# Altium schematic symbol library WR-WTB.SchLib: 242 symbols (part 2 of 5)
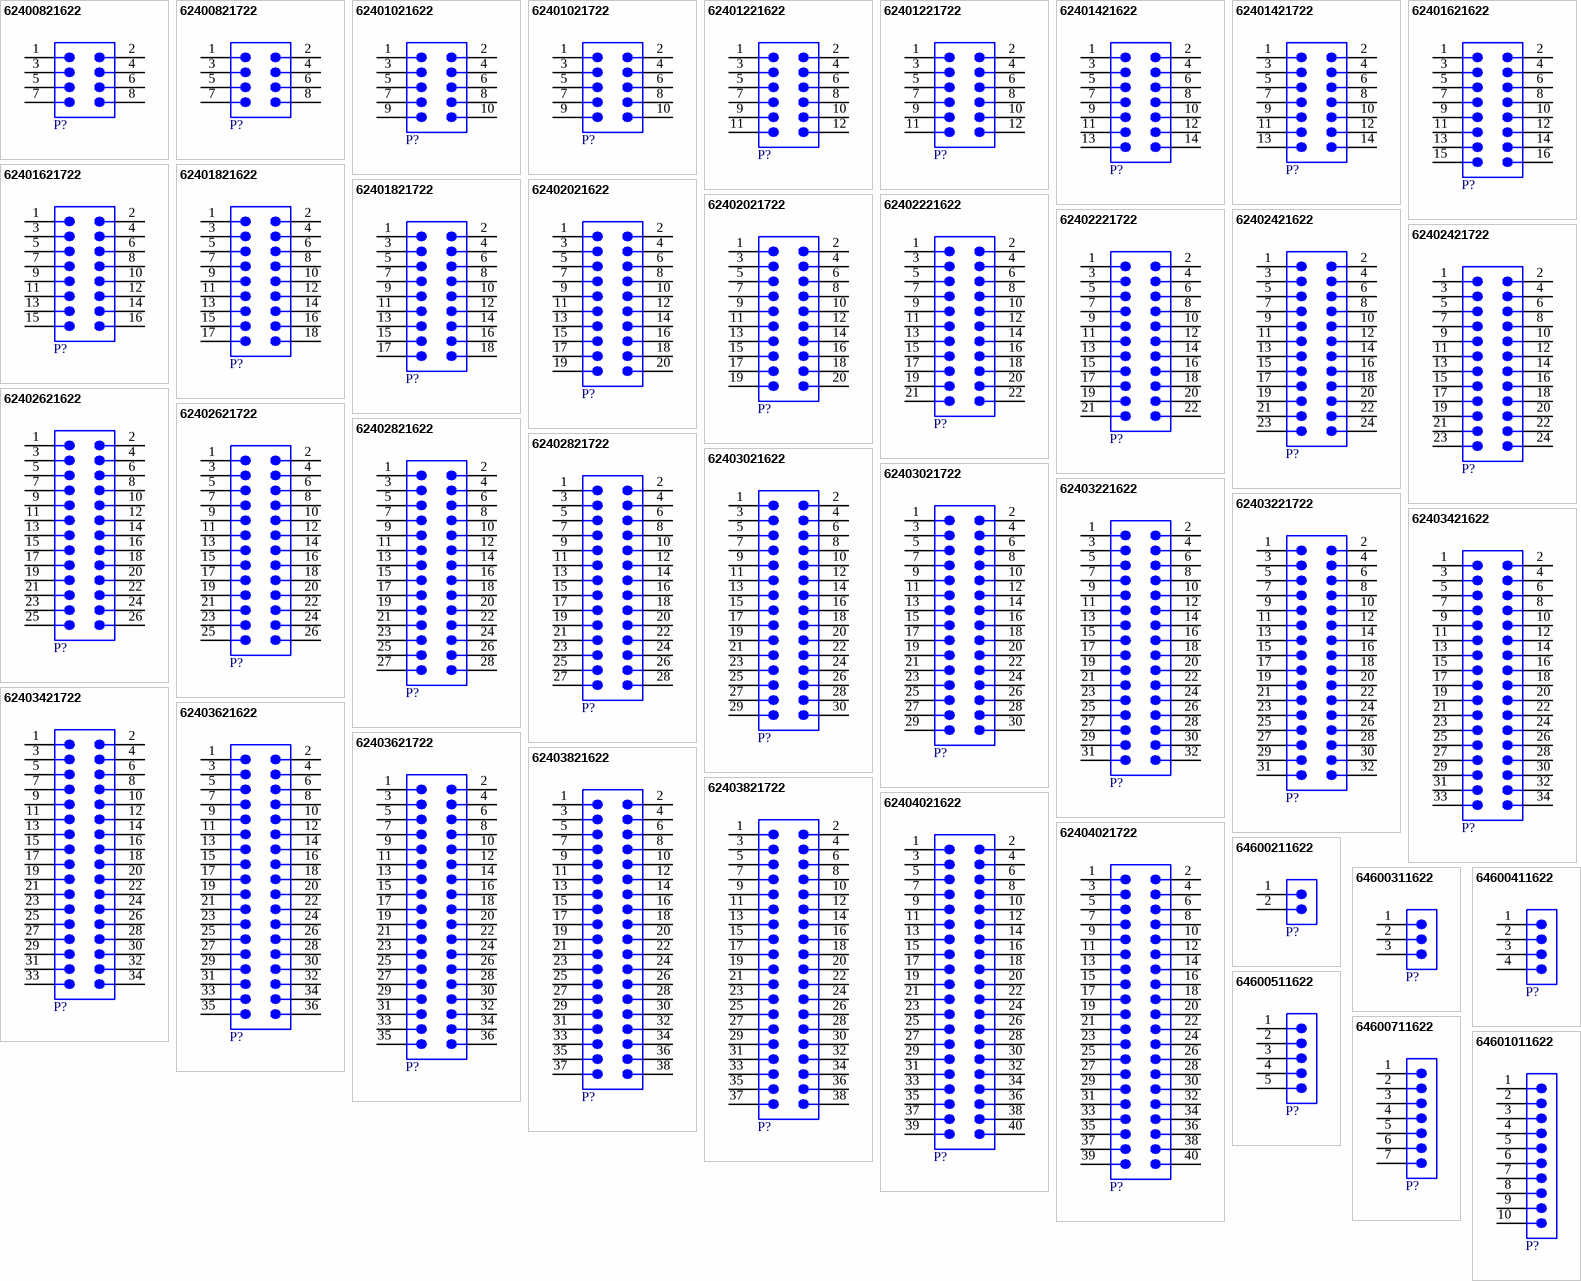
[diagram p7: symbols 62400821622 to 64601011622]

## 62402421622
designator P?  (value not drawn)
WR-WTB THT Male Vertical Shrouded Header with positive locking, Dual Row, pitch 2mm, 24pins; Manufacturer: Wurth Elektronik; Contact Resistance: 20mΩ; Rated Current: 3A; Working Voltage: 250VAC; Withstanding Voltage: 1000VAC; ComponentLink1Description: Website Link; ComponentLink1URL: https://www.we-online.com/redexpert/article/62402421622?ad; ComponentLink2Description: Datasheet Link; ComponentLink2URL: https://www.we-online.com/redexpert/spec/62402421622?ad; Manufacturer Part Number: 62402421622; Category: Wire-to-Board Connectors; Match Code: WR-WTB; Mount: Through Hole; Operating Temperature Max: 85°C; Operating Temperature Min: -25°C; Packaging: Tube; Length: 27.4mm; Width: 11.5mm; Height: 11.6mm; Gender: Male; Number of Pins: 24; Number of Rows: 2; Orientation: Vertical; Pitch: 2mm
footprint 62402421622
pins: 1, 2, 3, 4, 5, 6, 7, 8, 9, 10, 11, 12, 13, 14, 15, 16, 17, 18, 19, 20, 21, 22, 23, 24

## 62402421722
designator P?  (value not drawn)
WR-WTB THT Male Horizontal Shrouded Header with positive locking, Dual Row, pitch 2mm, 24pins; Manufacturer: Wurth Elektronik; Contact Resistance: 20mΩ; Rated Current: 3A; Working Voltage: 250VAC; Withstanding Voltage: 1000VAC; ComponentLink1Description: Website Link; ComponentLink1URL: https://www.we-online.com/redexpert/article/62402421722?ad; ComponentLink2Description: Datasheet Link; ComponentLink2URL: https://www.we-online.com/redexpert/spec/62402421722?ad; Manufacturer Part Number: 62402421722; Category: Wire-to-Board Connectors; Match Code: WR-WTB; Mount: Through Hole; Operating Temperature Max: 85°C; Operating Temperature Min: -25°C; Packaging: Tube; Length: 27.4mm; Width: 14.5mm; Height: 11.7mm; Gender: Male; Number of Pins: 24; Number of Rows: 2; Orientation: Horizontal; Pitch: 2mm
footprint 62402421722
pins: 1, 2, 3, 4, 5, 6, 7, 8, 9, 10, 11, 12, 13, 14, 15, 16, 17, 18, 19, 20, 21, 22, 23, 24

## 62402621622
designator P?  (value not drawn)
WR-WTB THT Male Vertical Shrouded Header with positive locking, Dual Row, pitch 2mm, 26pins; Manufacturer: Wurth Elektronik; Contact Resistance: 20mΩ; Rated Current: 3A; Working Voltage: 250VAC; Withstanding Voltage: 1000VAC; ComponentLink1Description: Website Link; ComponentLink1URL: https://www.we-online.com/redexpert/article/62402621622?ad; ComponentLink2Description: Datasheet Link; ComponentLink2URL: https://www.we-online.com/redexpert/spec/62402621622?ad; Manufacturer Part Number: 62402621622; Category: Wire-to-Board Connectors; Match Code: WR-WTB; Mount: Through Hole; Operating Temperature Max: 85°C; Operating Temperature Min: -25°C; Packaging: Tube; Length: 29.4mm; Width: 11.5mm; Height: 11.6mm; Gender: Male; Number of Pins: 26; Number of Rows: 2; Orientation: Vertical; Pitch: 2mm
footprint 62402621622
pins: 1, 2, 3, 4, 5, 6, 7, 8, 9, 10, 11, 12, 13, 14, 15, 16, 17, 18, 19, 20, 21, 22, 23, 24, 25, 26

## 62402621722
designator P?  (value not drawn)
WR-WTB THT Male Horizontal Shrouded Header with positive locking, Dual Row, pitch 2mm, 26pins; Manufacturer: Wurth Elektronik; Contact Resistance: 20mΩ; Rated Current: 3A; Working Voltage: 250VAC; Withstanding Voltage: 1000VAC; ComponentLink1Description: Website Link; ComponentLink1URL: https://www.we-online.com/redexpert/article/62402621722?ad; ComponentLink2Description: Datasheet Link; ComponentLink2URL: https://www.we-online.com/redexpert/spec/62402621722?ad; Manufacturer Part Number: 62402621722; Category: Wire-to-Board Connectors; Match Code: WR-WTB; Mount: Through Hole; Operating Temperature Max: 85°C; Operating Temperature Min: -25°C; Packaging: Tube; Length: 29.4mm; Width: 14.5mm; Height: 11.7mm; Gender: Male; Number of Pins: 26; Number of Rows: 2; Orientation: Horizontal; Pitch: 2mm
footprint 62402621722
pins: 1, 2, 3, 4, 5, 6, 7, 8, 9, 10, 11, 12, 13, 14, 15, 16, 17, 18, 19, 20, 21, 22, 23, 24, 25, 26

## 62402821622
designator P?  (value not drawn)
WR-WTB THT Male Vertical Shrouded Header with positive locking, Dual Row, pitch 2mm, 28pins; Manufacturer: Wurth Elektronik; Contact Resistance: 20mΩ; Rated Current: 3A; Working Voltage: 250VAC; Withstanding Voltage: 1000VAC; ComponentLink1Description: Website Link; ComponentLink1URL: https://www.we-online.com/redexpert/article/62402821622?ad; ComponentLink2Description: Datasheet Link; ComponentLink2URL: https://www.we-online.com/redexpert/spec/62402821622?ad; Manufacturer Part Number: 62402821622; Category: Wire-to-Board Connectors; Match Code: WR-WTB; Mount: Through Hole; Operating Temperature Max: 85°C; Operating Temperature Min: -25°C; Packaging: Tube; Length: 31.4mm; Width: 11.5mm; Height: 11.6mm; Gender: Male; Number of Pins: 28; Number of Rows: 2; Orientation: Vertical; Pitch: 2mm
footprint 62402821622
pins: 1, 2, 3, 4, 5, 6, 7, 8, 9, 10, 11, 12, 13, 14, 15, 16, 17, 18, 19, 20, 21, 22, 23, 24, 25, 26, 27, 28

## 62402821722
designator P?  (value not drawn)
WR-WTB THT Male Horizontal Shrouded Header with positive locking, Dual Row, pitch 2mm, 28pins; Manufacturer: Wurth Elektronik; Contact Resistance: 20mΩ; Rated Current: 3A; Working Voltage: 250VAC; Withstanding Voltage: 1000VAC; ComponentLink1Description: Website Link; ComponentLink1URL: https://www.we-online.com/redexpert/article/62402821722?ad; ComponentLink2Description: Datasheet Link; ComponentLink2URL: https://www.we-online.com/redexpert/spec/62402821722?ad; Manufacturer Part Number: 62402821722; Category: Wire-to-Board Connectors; Match Code: WR-WTB; Mount: Through Hole; Operating Temperature Max: 85°C; Operating Temperature Min: -25°C; Packaging: Tube; Length: 31.4mm; Width: 14.5mm; Height: 11.7mm; Gender: Male; Number of Pins: 28; Number of Rows: 2; Orientation: Horizontal; Pitch: 2mm
footprint 62402821722
pins: 1, 2, 3, 4, 5, 6, 7, 8, 9, 10, 11, 12, 13, 14, 15, 16, 17, 18, 19, 20, 21, 22, 23, 24, 25, 26, 27, 28

## 62403021622
designator P?  (value not drawn)
WR-WTB THT Male Vertical Shrouded Header with positive locking, Dual Row, pitch 2mm, 30pins; Manufacturer: Wurth Elektronik; Contact Resistance: 20mΩ; Rated Current: 3A; Working Voltage: 250VAC; Withstanding Voltage: 1000VAC; ComponentLink1Description: Website Link; ComponentLink1URL: https://www.we-online.com/redexpert/article/62403021622?ad; ComponentLink2Description: Datasheet Link; ComponentLink2URL: https://www.we-online.com/redexpert/spec/62403021622?ad; Manufacturer Part Number: 62403021622; Category: Wire-to-Board Connectors; Match Code: WR-WTB; Mount: Through Hole; Operating Temperature Max: 85°C; Operating Temperature Min: -25°C; Packaging: Tube; Length: 33.4mm; Width: 11.5mm; Height: 11.6mm; Gender: Male; Number of Pins: 30; Number of Rows: 2; Orientation: Vertical; Pitch: 2mm
footprint 62403021622
pins: 1, 2, 3, 4, 5, 6, 7, 8, 9, 10, 11, 12, 13, 14, 15, 16, 17, 18, 19, 20, 21, 22, 23, 24, 25, 26, 27, 28, 29, 30

## 62403021722
designator P?  (value not drawn)
WR-WTB THT Male Horizontal Shrouded Header with positive locking, Dual Row, pitch 2mm, 30pins; Manufacturer: Wurth Elektronik; Contact Resistance: 20mΩ; Rated Current: 3A; Working Voltage: 250VAC; Withstanding Voltage: 1000VAC; ComponentLink1Description: Website Link; ComponentLink1URL: https://www.we-online.com/redexpert/article/62403021722?ad; ComponentLink2Description: Datasheet Link; ComponentLink2URL: https://www.we-online.com/redexpert/spec/62403021722?ad; Manufacturer Part Number: 62403021722; Category: Wire-to-Board Connectors; Match Code: WR-WTB; Mount: Through Hole; Operating Temperature Max: 85°C; Operating Temperature Min: -25°C; Packaging: Tube; Length: 33.4mm; Width: 14.5mm; Height: 11.7mm; Gender: Male; Number of Pins: 30; Number of Rows: 2; Orientation: Horizontal; Pitch: 2mm
footprint 62403021722
pins: 1, 2, 3, 4, 5, 6, 7, 8, 9, 10, 11, 12, 13, 14, 15, 16, 17, 18, 19, 20, 21, 22, 23, 24, 25, 26, 27, 28, 29, 30

## 62403221622
designator P?  (value not drawn)
WR-WTB THT Male Vertical Shrouded Header with positive locking, Dual Row, pitch 2mm, 32pins; Manufacturer: Wurth Elektronik; Contact Resistance: 20mΩ; Rated Current: 3A; Working Voltage: 250VAC; Withstanding Voltage: 1000VAC; ComponentLink1Description: Website Link; ComponentLink1URL: https://www.we-online.com/redexpert/article/62403221622?ad; ComponentLink2Description: Datasheet Link; ComponentLink2URL: https://www.we-online.com/redexpert/spec/62403221622?ad; Manufacturer Part Number: 62403221622; Category: Wire-to-Board Connectors; Match Code: WR-WTB; Mount: Through Hole; Operating Temperature Max: 85°C; Operating Temperature Min: -25°C; Packaging: Tube; Length: 35.4mm; Width: 11.5mm; Height: 11.6mm; Gender: Male; Number of Pins: 32; Number of Rows: 2; Orientation: Vertical; Pitch: 2mm
footprint 62403221622
pins: 1, 2, 3, 4, 5, 6, 7, 8, 9, 10, 11, 12, 13, 14, 15, 16, 17, 18, 19, 20, 21, 22, 23, 24, 25, 26, 27, 28, 29, 30, 31, 32

## 62403221722
designator P?  (value not drawn)
WR-WTB THT Male Horizontal Shrouded Header with positive locking, Dual Row, pitch 2mm, 32pins; Manufacturer: Wurth Elektronik; Contact Resistance: 20mΩ; Rated Current: 3A; Working Voltage: 250VAC; Withstanding Voltage: 1000VAC; ComponentLink1Description: Website Link; ComponentLink1URL: https://www.we-online.com/redexpert/article/62403221722?ad; ComponentLink2Description: Datasheet Link; ComponentLink2URL: https://www.we-online.com/redexpert/spec/62403221722?ad; Manufacturer Part Number: 62403221722; Category: Wire-to-Board Connectors; Match Code: WR-WTB; Mount: Through Hole; Operating Temperature Max: 85°C; Operating Temperature Min: -25°C; Packaging: Tube; Length: 35.4mm; Width: 14.5mm; Height: 11.7mm; Gender: Male; Number of Pins: 32; Number of Rows: 2; Orientation: Horizontal; Pitch: 2mm
footprint 62403221722
pins: 1, 2, 3, 4, 5, 6, 7, 8, 9, 10, 11, 12, 13, 14, 15, 16, 17, 18, 19, 20, 21, 22, 23, 24, 25, 26, 27, 28, 29, 30, 31, 32

## 62403421622
designator P?  (value not drawn)
WR-WTB THT Male Vertical Shrouded Header with positive locking, Dual Row, pitch 2mm, 34pins; Manufacturer: Wurth Elektronik; Contact Resistance: 20mΩ; Rated Current: 3A; Working Voltage: 250VAC; Withstanding Voltage: 1000VAC; ComponentLink1Description: Website Link; ComponentLink1URL: https://www.we-online.com/redexpert/article/62403421622?ad; ComponentLink2Description: Datasheet Link; ComponentLink2URL: https://www.we-online.com/redexpert/spec/62403421622?ad; Manufacturer Part Number: 62403421622; Category: Wire-to-Board Connectors; Match Code: WR-WTB; Mount: Through Hole; Operating Temperature Max: 85°C; Operating Temperature Min: -25°C; Packaging: Tube; Length: 37.4mm; Width: 11.5mm; Height: 11.6mm; Gender: Male; Number of Pins: 34; Number of Rows: 2; Orientation: Vertical; Pitch: 2mm
footprint 62403421622
pins: 1, 2, 3, 4, 5, 6, 7, 8, 9, 10, 11, 12, 13, 14, 15, 16, 17, 18, 19, 20, 21, 22, 23, 24, 25, 26, 27, 28, 29, 30, 31, 32, 33, 34

## 62403421722
designator P?  (value not drawn)
WR-WTB THT Male Horizontal Shrouded Header with positive locking, Dual Row, pitch 2mm, 34pins; Manufacturer: Wurth Elektronik; Contact Resistance: 20mΩ; Rated Current: 3A; Working Voltage: 250VAC; Withstanding Voltage: 1000VAC; ComponentLink1Description: Website Link; ComponentLink1URL: https://www.we-online.com/redexpert/article/62403421722?ad; ComponentLink2Description: Datasheet Link; ComponentLink2URL: https://www.we-online.com/redexpert/spec/62403421722?ad; Manufacturer Part Number: 62403421722; Category: Wire-to-Board Connectors; Match Code: WR-WTB; Mount: Through Hole; Operating Temperature Max: 85°C; Operating Temperature Min: -25°C; Packaging: Tube; Length: 37.4mm; Width: 14.5mm; Height: 11.7mm; Gender: Male; Number of Pins: 34; Number of Rows: 2; Orientation: Horizontal; Pitch: 2mm
footprint 62403421722
pins: 1, 2, 3, 4, 5, 6, 7, 8, 9, 10, 11, 12, 13, 14, 15, 16, 17, 18, 19, 20, 21, 22, 23, 24, 25, 26, 27, 28, 29, 30, 31, 32, 33, 34

## 62403621622
designator P?  (value not drawn)
WR-WTB THT Male Vertical Shrouded Header with positive locking, Dual Row, pitch 2mm, 36pins; Manufacturer: Wurth Elektronik; Contact Resistance: 20mΩ; Rated Current: 3A; Working Voltage: 250VAC; Withstanding Voltage: 1000VAC; ComponentLink1Description: Website Link; ComponentLink1URL: https://www.we-online.com/redexpert/article/62403621622?ad; ComponentLink2Description: Datasheet Link; ComponentLink2URL: https://www.we-online.com/redexpert/spec/62403621622?ad; Manufacturer Part Number: 62403621622; Category: Wire-to-Board Connectors; Match Code: WR-WTB; Mount: Through Hole; Operating Temperature Max: 85°C; Operating Temperature Min: -25°C; Packaging: Tube; Length: 39.4mm; Width: 11.5mm; Height: 11.6mm; Gender: Male; Number of Pins: 36; Number of Rows: 2; Orientation: Vertical; Pitch: 2mm
footprint 62403621622
pins: 1, 2, 3, 4, 5, 6, 7, 8, 9, 10, 11, 12, 13, 14, 15, 16, 17, 18, 19, 20, 21, 22, 23, 24, 25, 26, 27, 28, 29, 30, 31, 32, 33, 34, 35, 36

## 62403621722
designator P?  (value not drawn)
WR-WTB THT Male Horizontal Shrouded Header with positive locking, Dual Row, pitch 2mm, 36pins; Manufacturer: Wurth Elektronik; Contact Resistance: 20mΩ; Rated Current: 3A; Working Voltage: 250VAC; Withstanding Voltage: 1000VAC; ComponentLink1Description: Website Link; ComponentLink1URL: https://www.we-online.com/redexpert/article/62403621722?ad; ComponentLink2Description: Datasheet Link; ComponentLink2URL: https://www.we-online.com/redexpert/spec/62403621722?ad; Manufacturer Part Number: 62403621722; Category: Wire-to-Board Connectors; Match Code: WR-WTB; Mount: Through Hole; Operating Temperature Max: 85°C; Operating Temperature Min: -25°C; Packaging: Tube; Length: 39.4mm; Width: 14.5mm; Height: 11.7mm; Gender: Male; Number of Pins: 36; Number of Rows: 2; Orientation: Horizontal; Pitch: 2mm
footprint 62403621722
pins: 1, 2, 3, 4, 5, 6, 7, 8, 9, 10, 11, 12, 13, 14, 15, 16, 17, 18, 19, 20, 21, 22, 23, 24, 25, 26, 27, 28, 29, 30, 31, 32, 33, 34, 35, 36

## 62403821622
designator P?  (value not drawn)
WR-WTB THT Male Vertical Shrouded Header with positive locking, Dual Row, pitch 2mm, 38pins; Manufacturer: Wurth Elektronik; Contact Resistance: 20mΩ; Rated Current: 3A; Working Voltage: 250VAC; Withstanding Voltage: 1000VAC; ComponentLink1Description: Website Link; ComponentLink1URL: https://www.we-online.com/redexpert/article/62403821622?ad; ComponentLink2Description: Datasheet Link; ComponentLink2URL: https://www.we-online.com/redexpert/spec/62403821622?ad; Manufacturer Part Number: 62403821622; Category: Wire-to-Board Connectors; Match Code: WR-WTB; Mount: Through Hole; Operating Temperature Max: 85°C; Operating Temperature Min: -25°C; Packaging: Tube; Length: 41.4mm; Width: 11.5mm; Height: 11.6mm; Gender: Male; Number of Pins: 38; Number of Rows: 2; Orientation: Vertical; Pitch: 2mm
footprint 62403821622
pins: 1, 2, 3, 4, 5, 6, 7, 8, 9, 10, 11, 12, 13, 14, 15, 16, 17, 18, 19, 20, 21, 22, 23, 24, 25, 26, 27, 28, 29, 30, 31, 32, 33, 34, 35, 36, 37, 38

## 62403821722
designator P?  (value not drawn)
WR-WTB THT Male Horizontal Shrouded Header with positive locking, Dual Row, pitch 2mm, 38pins; Manufacturer: Wurth Elektronik; Contact Resistance: 20mΩ; Rated Current: 3A; Working Voltage: 250VAC; Withstanding Voltage: 1000VAC; ComponentLink1Description: Website Link; ComponentLink1URL: https://www.we-online.com/redexpert/article/62403821722?ad; ComponentLink2Description: Datasheet Link; ComponentLink2URL: https://www.we-online.com/redexpert/spec/62403821722?ad; Manufacturer Part Number: 62403821722; Category: Wire-to-Board Connectors; Match Code: WR-WTB; Mount: Through Hole; Operating Temperature Max: 85°C; Operating Temperature Min: -25°C; Packaging: Tube; Length: 41.4mm; Width: 14.5mm; Height: 11.7mm; Gender: Male; Number of Pins: 38; Number of Rows: 2; Orientation: Horizontal; Pitch: 2mm
footprint 62403821722
pins: 1, 2, 3, 4, 5, 6, 7, 8, 9, 10, 11, 12, 13, 14, 15, 16, 17, 18, 19, 20, 21, 22, 23, 24, 25, 26, 27, 28, 29, 30, 31, 32, 33, 34, 35, 36, 37, 38

## 62404021622
designator P?  (value not drawn)
WR-WTB THT Male Vertical Shrouded Header with positive locking, Dual Row, pitch 2mm, 40pins; Manufacturer: Wurth Elektronik; Contact Resistance: 20mΩ; Rated Current: 3A; Working Voltage: 250VAC; Withstanding Voltage: 1000VAC; ComponentLink1Description: Website Link; ComponentLink1URL: https://www.we-online.com/redexpert/article/62404021622?ad; ComponentLink2Description: Datasheet Link; ComponentLink2URL: https://www.we-online.com/redexpert/spec/62404021622?ad; Manufacturer Part Number: 62404021622; Category: Wire-to-Board Connectors; Match Code: WR-WTB; Mount: Through Hole; Operating Temperature Max: 85°C; Operating Temperature Min: -25°C; Packaging: Tube; Length: 43.4mm; Width: 11.5mm; Height: 11.6mm; Gender: Male; Number of Pins: 40; Number of Rows: 2; Orientation: Vertical; Pitch: 2mm
footprint 62404021622
pins: 1, 2, 3, 4, 5, 6, 7, 8, 9, 10, 11, 12, 13, 14, 15, 16, 17, 18, 19, 20, 21, 22, 23, 24, 25, 26, 27, 28, 29, 30, 31, 32, 33, 34, 35, 36, 37, 38, 39, 40

## 62404021722
designator P?  (value not drawn)
WR-WTB THT Male Horizontal Shrouded Header with positive locking, Dual Row, pitch 2mm, 40pins; Manufacturer: Wurth Elektronik; Contact Resistance: 20mΩ; Rated Current: 3A; Working Voltage: 250VAC; Withstanding Voltage: 1000VAC; ComponentLink1Description: Website Link; ComponentLink1URL: https://www.we-online.com/redexpert/article/62404021722?ad; ComponentLink2Description: Datasheet Link; ComponentLink2URL: https://www.we-online.com/redexpert/spec/62404021722?ad; Manufacturer Part Number: 62404021722; Category: Wire-to-Board Connectors; Match Code: WR-WTB; Mount: Through Hole; Operating Temperature Max: 85°C; Operating Temperature Min: -25°C; Packaging: Tube; Length: 43.4mm; Width: 14.5mm; Height: 11.7mm; Gender: Male; Number of Pins: 40; Number of Rows: 2; Orientation: Horizontal; Pitch: 2mm
footprint 62404021722
pins: 1, 2, 3, 4, 5, 6, 7, 8, 9, 10, 11, 12, 13, 14, 15, 16, 17, 18, 19, 20, 21, 22, 23, 24, 25, 26, 27, 28, 29, 30, 31, 32, 33, 34, 35, 36, 37, 38, 39, 40

## 64600211622
designator P?  (value not drawn)
WR-WTB Male Vertical Shrouded Header, pitch 2.5mm, 2pins; Manufacturer: Wurth Elektronik; Contact Resistance: 20mΩ; Rated Current: 3A; Working Voltage: 250VAC; Withstanding Voltage: 1000VAC; ComponentLink1Description: Website Link; ComponentLink1URL: https://www.we-online.com/redexpert/article/64600211622?ad; ComponentLink2Description: Datasheet Link; ComponentLink2URL: https://www.we-online.com/redexpert/spec/64600211622?ad; Manufacturer Part Number: 64600211622; Category: Wire-to-Board Connectors; Match Code: WR-WTB; Mount: Through Hole; Operating Temperature Max: 105°C; Operating Temperature Min: -40°C; Packaging: Bag; Length: 7.5mm; Width: 4.9mm; Height: 5.9mm; Gender: Male; Number of Pins: 2; Number of Rows: 1; Orientation: Vertical; Pitch: 2.5mm
footprint 64600211622
pins: 1, 2

## 64600311622
designator P?  (value not drawn)
WR-WTB Male Vertical Shrouded Header, pitch 2.5mm, 3pins; Manufacturer: Wurth Elektronik; Contact Resistance: 20mΩ; Rated Current: 3A; Working Voltage: 250VAC; Withstanding Voltage: 1000VAC; ComponentLink1Description: Website Link; ComponentLink1URL: https://www.we-online.com/redexpert/article/64600311622?ad; ComponentLink2Description: Datasheet Link; ComponentLink2URL: https://www.we-online.com/redexpert/spec/64600311622?ad; Manufacturer Part Number: 64600311622; Category: Wire-to-Board Connectors; Match Code: WR-WTB; Mount: Through Hole; Operating Temperature Max: 105°C; Operating Temperature Min: -40°C; Packaging: Bag; Length: 10mm; Width: 4.9mm; Height: 5.9mm; Gender: Male; Number of Pins: 3; Number of Rows: 1; Orientation: Vertical; Pitch: 2.5mm
footprint 64600311622
pins: 1, 2, 3

## 64600411622
designator P?  (value not drawn)
WR-WTB Male Vertical Shrouded Header, pitch 2.5mm, 4pins; Manufacturer: Wurth Elektronik; Contact Resistance: 20mΩ; Rated Current: 3A; Working Voltage: 250VAC; Withstanding Voltage: 1000VAC; ComponentLink1Description: Website Link; ComponentLink1URL: https://www.we-online.com/redexpert/article/64600411622?ad; ComponentLink2Description: Datasheet Link; ComponentLink2URL: https://www.we-online.com/redexpert/spec/64600411622?ad; Manufacturer Part Number: 64600411622; Category: Wire-to-Board Connectors; Match Code: WR-WTB; Mount: Through Hole; Operating Temperature Max: 105°C; Operating Temperature Min: -40°C; Packaging: Bag; Length: 12.5mm; Width: 4.9mm; Height: 5.9mm; Gender: Male; Number of Pins: 4; Number of Rows: 1; Orientation: Vertical; Pitch: 2.5mm
footprint 64600411622
pins: 1, 2, 3, 4

## 64600511622
designator P?  (value not drawn)
WR-WTB Male Vertical Shrouded Header, pitch 2.5mm, 5pins; Manufacturer: Wurth Elektronik; Contact Resistance: 20mΩ; Rated Current: 3A; Working Voltage: 250VAC; Withstanding Voltage: 1000VAC; ComponentLink1Description: Website Link; ComponentLink1URL: https://www.we-online.com/redexpert/article/64600511622?ad; ComponentLink2Description: Datasheet Link; ComponentLink2URL: https://www.we-online.com/redexpert/spec/64600511622?ad; Manufacturer Part Number: 64600511622; Category: Wire-to-Board Connectors; Match Code: WR-WTB; Mount: Through Hole; Operating Temperature Max: 105°C; Operating Temperature Min: -40°C; Packaging: Bag; Length: 15mm; Width: 4.9mm; Height: 5.9mm; Gender: Male; Number of Pins: 5; Number of Rows: 1; Orientation: Vertical; Pitch: 2.5mm
footprint 64600511622
pins: 1, 2, 3, 4, 5

## 64600711622
designator P?  (value not drawn)
WR-WTB Male Vertical Shrouded Header, pitch 2.5mm, 7pins; Manufacturer: Wurth Elektronik; Contact Resistance: 20mΩ; Rated Current: 3A; Working Voltage: 250VAC; Withstanding Voltage: 1000VAC; ComponentLink1Description: Website Link; ComponentLink1URL: https://www.we-online.com/redexpert/article/64600711622?ad; ComponentLink2Description: Datasheet Link; ComponentLink2URL: https://www.we-online.com/redexpert/spec/64600711622?ad; Manufacturer Part Number: 64600711622; Category: Wire-to-Board Connectors; Match Code: WR-WTB; Mount: Through Hole; Operating Temperature Max: 105°C; Operating Temperature Min: -40°C; Packaging: Bag; Length: 20mm; Width: 4.9mm; Height: 5.9mm; Gender: Male; Number of Pins: 7; Number of Rows: 1; Orientation: Vertical; Pitch: 2.5mm
footprint 64600711622
pins: 1, 2, 3, 4, 5, 6, 7

## 64601011622
designator P?  (value not drawn)
WR-WTB Male Vertical Shrouded Header, pitch 2.5mm, 10pins; Manufacturer: Wurth Elektronik; Contact Resistance: 20mΩ; Rated Current: 3A; Working Voltage: 250VAC; Withstanding Voltage: 1000VAC; ComponentLink1Description: Website Link; ComponentLink1URL: https://www.we-online.com/redexpert/article/64601011622?ad; ComponentLink2Description: Datasheet Link; ComponentLink2URL: https://www.we-online.com/redexpert/spec/64601011622?ad; Manufacturer Part Number: 64601011622; Category: Wire-to-Board Connectors; Match Code: WR-WTB; Mount: Through Hole; Operating Temperature Max: 105°C; Operating Temperature Min: -40°C; Packaging: Bag; Length: 27.5mm; Width: 4.9mm; Height: 5.9mm; Gender: Male; Number of Pins: 10; Number of Rows: 1; Orientation: Vertical; Pitch: 2.5mm
footprint 64601011622
pins: 1, 2, 3, 4, 5, 6, 7, 8, 9, 10

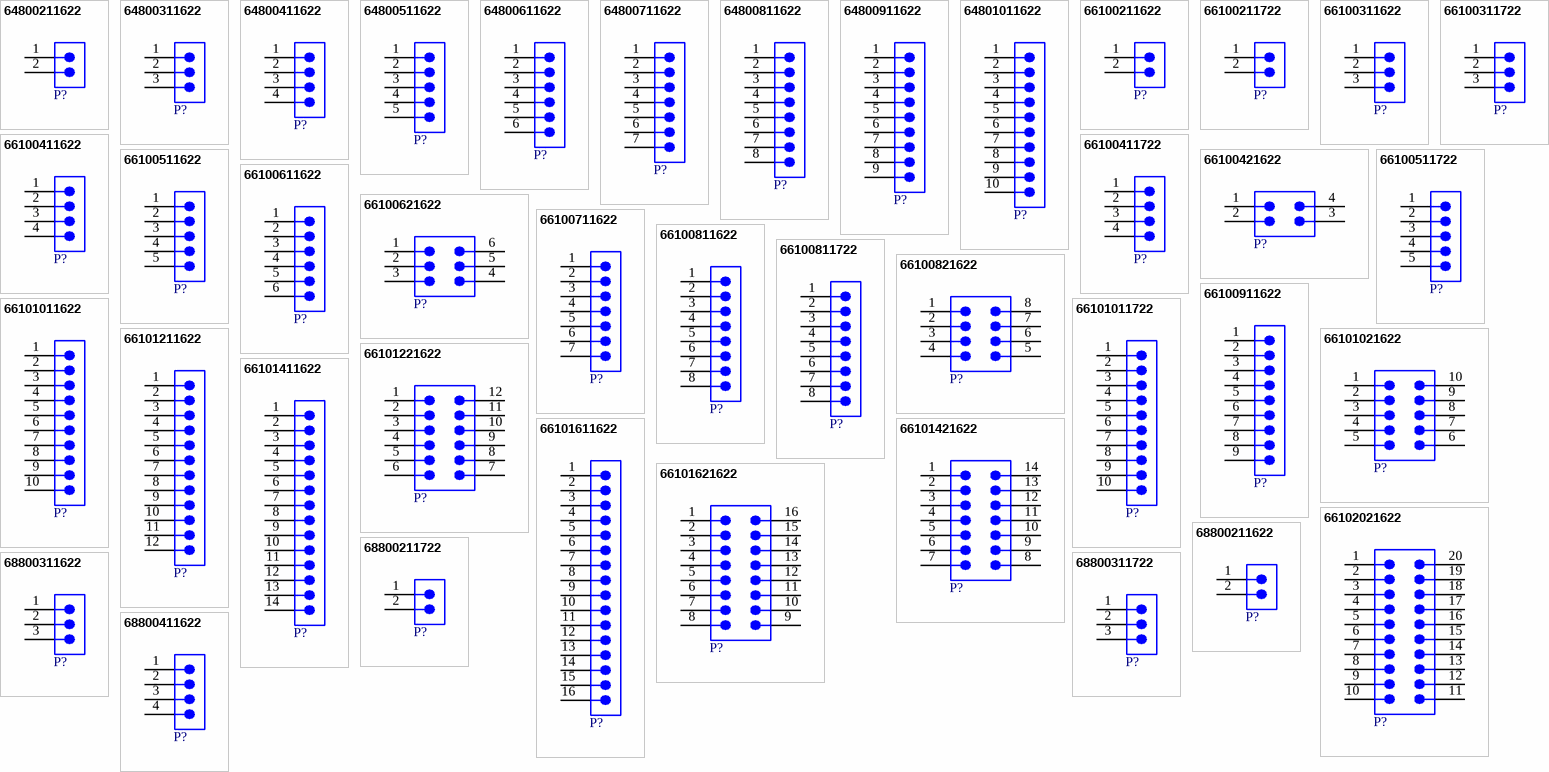
[diagram p2: symbols 64800211622 to 68800411622]

## 64800211622
designator P?  (value not drawn)
WR-WTB THT Male Vertical Shrouded Header, pitch 1.5mm, 2pins; Manufacturer: Wurth Elektronik; Contact Resistance: 20mΩ; Rated Current: 1A; Working Voltage: 50VAC; Withstanding Voltage: 500VAC; ComponentLink1Description: Website Link; ComponentLink1URL: https://www.we-online.com/redexpert/article/64800211622?ad; ComponentLink2Description: Datasheet Link; ComponentLink2URL: https://www.we-online.com/redexpert/spec/64800211622?ad; Manufacturer Part Number: 64800211622; Category: Wire-to-Board Connectors; Match Code: WR-WTB; Mount: Through Hole; Operating Temperature Max: 85°C; Operating Temperature Min: -25°C; Packaging: Bag; Length: 4.5mm; Width: 3.5mm; Height: 4.5mm; Gender: Male; Number of Pins: 2; Number of Rows: 1; Orientation: Vertical; Pitch: 1.5mm
footprint 64800211622
pins: 1, 2

## 64800311622
designator P?  (value not drawn)
WR-WTB THT Male Vertical Shrouded Header, pitch 1.5mm, 3pins; Manufacturer: Wurth Elektronik; Contact Resistance: 20mΩ; Rated Current: 1A; Working Voltage: 50VAC; Withstanding Voltage: 500VAC; ComponentLink1Description: Website Link; ComponentLink1URL: https://www.we-online.com/redexpert/article/64800311622?ad; ComponentLink2Description: Datasheet Link; ComponentLink2URL: https://www.we-online.com/redexpert/spec/64800311622?ad; Manufacturer Part Number: 64800311622; Category: Wire-to-Board Connectors; Match Code: WR-WTB; Mount: Through Hole; Operating Temperature Max: 85°C; Operating Temperature Min: -25°C; Packaging: Bag; Length: 6mm; Width: 3.5mm; Height: 4.5mm; Gender: Male; Number of Pins: 3; Number of Rows: 1; Orientation: Vertical; Pitch: 1.5mm
footprint 64800311622
pins: 1, 2, 3

## 64800411622
designator P?  (value not drawn)
WR-WTB THT Male Vertical Shrouded Header, pitch 1.5mm, 4pins; Manufacturer: Wurth Elektronik; Contact Resistance: 20mΩ; Rated Current: 1A; Working Voltage: 50VAC; Withstanding Voltage: 500VAC; ComponentLink1Description: Website Link; ComponentLink1URL: https://www.we-online.com/redexpert/article/64800411622?ad; ComponentLink2Description: Datasheet Link; ComponentLink2URL: https://www.we-online.com/redexpert/spec/64800411622?ad; Manufacturer Part Number: 64800411622; Category: Wire-to-Board Connectors; Match Code: WR-WTB; Mount: Through Hole; Operating Temperature Max: 85°C; Operating Temperature Min: -25°C; Packaging: Bag; Length: 7.5mm; Width: 3.5mm; Height: 4.5mm; Gender: Male; Number of Pins: 4; Number of Rows: 1; Orientation: Vertical; Pitch: 1.5mm
footprint 64800411622
pins: 1, 2, 3, 4

## 64800511622
designator P?  (value not drawn)
WR-WTB THT Male Vertical Shrouded Header, pitch 1.5mm, 5pins; Manufacturer: Wurth Elektronik; Contact Resistance: 20mΩ; Rated Current: 1A; Working Voltage: 50VAC; Withstanding Voltage: 500VAC; ComponentLink1Description: Website Link; ComponentLink1URL: https://www.we-online.com/redexpert/article/64800511622?ad; ComponentLink2Description: Datasheet Link; ComponentLink2URL: https://www.we-online.com/redexpert/spec/64800511622?ad; Manufacturer Part Number: 64800511622; Category: Wire-to-Board Connectors; Match Code: WR-WTB; Mount: Through Hole; Operating Temperature Max: 85°C; Operating Temperature Min: -25°C; Packaging: Bag; Length: 9mm; Width: 3.5mm; Height: 4.5mm; Gender: Male; Number of Pins: 5; Number of Rows: 1; Orientation: Vertical; Pitch: 1.5mm
footprint 64800511622
pins: 1, 2, 3, 4, 5

## 64800611622
designator P?  (value not drawn)
WR-WTB THT Male Vertical Shrouded Header, pitch 1.5mm, 6pins; Manufacturer: Wurth Elektronik; Contact Resistance: 20mΩ; Rated Current: 1A; Working Voltage: 50VAC; Withstanding Voltage: 500VAC; ComponentLink1Description: Website Link; ComponentLink1URL: https://www.we-online.com/redexpert/article/64800611622?ad; ComponentLink2Description: Datasheet Link; ComponentLink2URL: https://www.we-online.com/redexpert/spec/64800611622?ad; Manufacturer Part Number: 64800611622; Category: Wire-to-Board Connectors; Match Code: WR-WTB; Mount: Through Hole; Operating Temperature Max: 85°C; Operating Temperature Min: -25°C; Packaging: Bag; Length: 10.5mm; Width: 3.5mm; Height: 4.5mm; Gender: Male; Number of Pins: 6; Number of Rows: 1; Orientation: Vertical; Pitch: 1.5mm
footprint 64800611622
pins: 1, 2, 3, 4, 5, 6

## 64800711622
designator P?  (value not drawn)
WR-WTB THT Male Vertical Shrouded Header, pitch 1.5mm, 7pins; Manufacturer: Wurth Elektronik; Contact Resistance: 20mΩ; Rated Current: 1A; Working Voltage: 50VAC; Withstanding Voltage: 500VAC; ComponentLink1Description: Website Link; ComponentLink1URL: https://www.we-online.com/redexpert/article/64800711622?ad; ComponentLink2Description: Datasheet Link; ComponentLink2URL: https://www.we-online.com/redexpert/spec/64800711622?ad; Manufacturer Part Number: 64800711622; Category: Wire-to-Board Connectors; Match Code: WR-WTB; Mount: Through Hole; Operating Temperature Max: 85°C; Operating Temperature Min: -25°C; Packaging: Bag; Length: 12mm; Width: 3.5mm; Height: 4.5mm; Gender: Male; Number of Pins: 7; Number of Rows: 1; Orientation: Vertical; Pitch: 1.5mm
footprint 64800711622
pins: 1, 2, 3, 4, 5, 6, 7

## 64800811622
designator P?  (value not drawn)
WR-WTB THT Male Vertical Shrouded Header, pitch 1.5mm, 8pins; Manufacturer: Wurth Elektronik; Contact Resistance: 20mΩ; Rated Current: 1A; Working Voltage: 50VAC; Withstanding Voltage: 500VAC; ComponentLink1Description: Website Link; ComponentLink1URL: https://www.we-online.com/redexpert/article/64800811622?ad; ComponentLink2Description: Datasheet Link; ComponentLink2URL: https://www.we-online.com/redexpert/spec/64800811622?ad; Manufacturer Part Number: 64800811622; Category: Wire-to-Board Connectors; Match Code: WR-WTB; Mount: Through Hole; Operating Temperature Max: 85°C; Operating Temperature Min: -25°C; Packaging: Bag; Length: 13.5mm; Width: 3.5mm; Height: 4.5mm; Gender: Male; Number of Pins: 8; Number of Rows: 1; Orientation: Vertical; Pitch: 1.5mm
footprint 64800811622
pins: 1, 2, 3, 4, 5, 6, 7, 8

## 64800911622
designator P?  (value not drawn)
WR-WTB THT Male Vertical Shrouded Header, pitch 1.5mm, 9pins; Manufacturer: Wurth Elektronik; Contact Resistance: 20mΩ; Rated Current: 1A; Working Voltage: 50VAC; Withstanding Voltage: 500VAC; ComponentLink1Description: Website Link; ComponentLink1URL: https://www.we-online.com/redexpert/article/64800911622?ad; ComponentLink2Description: Datasheet Link; ComponentLink2URL: https://www.we-online.com/redexpert/spec/64800911622?ad; Manufacturer Part Number: 64800911622; Category: Wire-to-Board Connectors; Match Code: WR-WTB; Mount: Through Hole; Operating Temperature Max: 85°C; Operating Temperature Min: -25°C; Packaging: Bag; Length: 15mm; Width: 3.5mm; Height: 4.5mm; Gender: Male; Number of Pins: 9; Number of Rows: 1; Orientation: Vertical; Pitch: 1.5mm
footprint 64800911622
pins: 1, 2, 3, 4, 5, 6, 7, 8, 9

## 64801011622
designator P?  (value not drawn)
WR-WTB THT Male Vertical Shrouded Header, pitch 1.5mm, 10pins; Manufacturer: Wurth Elektronik; Contact Resistance: 20mΩ; Rated Current: 1A; Working Voltage: 50VAC; Withstanding Voltage: 500VAC; ComponentLink1Description: Website Link; ComponentLink1URL: https://www.we-online.com/redexpert/article/64801011622?ad; ComponentLink2Description: Datasheet Link; ComponentLink2URL: https://www.we-online.com/redexpert/spec/64801011622?ad; Manufacturer Part Number: 64801011622; Category: Wire-to-Board Connectors; Match Code: WR-WTB; Mount: Through Hole; Operating Temperature Max: 85°C; Operating Temperature Min: -25°C; Packaging: Bag; Length: 16.5mm; Width: 3.5mm; Height: 4.5mm; Gender: Male; Number of Pins: 10; Number of Rows: 1; Orientation: Vertical; Pitch: 1.5mm
footprint 64801011622
pins: 1, 2, 3, 4, 5, 6, 7, 8, 9, 10

## 66100211622
designator P?  (value not drawn)
WR-WTB Male Vertical Shrouded Header, pitch 2.54mm, 2pins; Manufacturer: Wurth Elektronik; Contact Resistance: 20mΩ; Rated Current: 3A; Working Voltage: 50VAC; Withstanding Voltage: 500VAC; ComponentLink1Description: Website Link; ComponentLink1URL: https://www.we-online.com/redexpert/article/66100211622?ad; ComponentLink2Description: Datasheet Link; ComponentLink2URL: https://www.we-online.com/redexpert/spec/66100211622?ad; Manufacturer Part Number: 66100211622; Category: Wire-to-Board Connectors; Match Code: WR-WTB; Mount: Through Hole; Operating Temperature Max: 125°C; Operating Temperature Min: -40°C; Packaging: Box; Length: 4.78mm; Width: 5mm; Height: 11.3mm; Gender: Male; Number of Pins: 2; Number of Rows: 1; Orientation: Vertical; Pitch: 2.54mm
footprint 66100211622
pins: 1, 2

## 66100211722
designator P?  (value not drawn)
WR-WTB THT Male Right Angled Shrouded Header, pitch 2.54mm, 2pins; Manufacturer: Wurth Elektronik; Contact Resistance: 20mΩ; Rated Current: 3A; Working Voltage: 50VAC; Withstanding Voltage: 500VAC; ComponentLink1Description: Website Link; ComponentLink1URL: https://www.we-online.com/redexpert/article/66100211722?ad; ComponentLink2Description: Datasheet Link; ComponentLink2URL: https://www.we-online.com/redexpert/spec/66100211722?ad; Manufacturer Part Number: 66100211722; Category: Wire-to-Board Connectors; Match Code: WR-WTB; Mount: Through Hole; Operating Temperature Max: 125°C; Operating Temperature Min: -40°C; Packaging: Box; Length: 4.78mm; Width: 11.3mm; Height: 5mm; Gender: Male; Number of Pins: 2; Number of Rows: 1; Orientation: Right Angled; Pitch: 2.54mm
footprint 66100211722
pins: 1, 2

## 66100311622
designator P?  (value not drawn)
WR-WTB Male Vertical Shrouded Header, pitch 2.54mm, 3pins; Manufacturer: Wurth Elektronik; Contact Resistance: 20mΩ; Rated Current: 3A; Working Voltage: 50VAC; Withstanding Voltage: 500VAC; ComponentLink1Description: Website Link; ComponentLink1URL: https://www.we-online.com/redexpert/article/66100311622?ad; ComponentLink2Description: Datasheet Link; ComponentLink2URL: https://www.we-online.com/redexpert/spec/66100311622?ad; Manufacturer Part Number: 66100311622; Category: Wire-to-Board Connectors; Match Code: WR-WTB; Mount: Through Hole; Operating Temperature Max: 125°C; Operating Temperature Min: -40°C; Packaging: Box; Length: 7.32mm; Width: 5mm; Height: 11.3mm; Gender: Male; Number of Pins: 3; Number of Rows: 1; Orientation: Vertical; Pitch: 2.54mm
footprint 66100311622
pins: 1, 2, 3

## 66100311722
designator P?  (value not drawn)
WR-WTB THT Male Right Angled Shrouded Header, pitch 2.54mm, 3pins; Manufacturer: Wurth Elektronik; Contact Resistance: 20mΩ; Rated Current: 3A; Working Voltage: 50VAC; Withstanding Voltage: 500VAC; ComponentLink1Description: Website Link; ComponentLink1URL: https://www.we-online.com/redexpert/article/66100311722?ad; ComponentLink2Description: Datasheet Link; ComponentLink2URL: https://www.we-online.com/redexpert/spec/66100311722?ad; Manufacturer Part Number: 66100311722; Category: Wire-to-Board Connectors; Match Code: WR-WTB; Mount: Through Hole; Operating Temperature Max: 125°C; Operating Temperature Min: -40°C; Packaging: Box; Length: 7.32mm; Width: 11.3mm; Height: 5mm; Gender: Male; Number of Pins: 3; Number of Rows: 1; Orientation: Right Angled; Pitch: 2.54mm
footprint 66100311722
pins: 1, 2, 3

## 66100411622
designator P?  (value not drawn)
WR-WTB Male Vertical Shrouded Header, pitch 2.54mm, 4pins; Manufacturer: Wurth Elektronik; Contact Resistance: 20mΩ; Rated Current: 3A; Working Voltage: 50VAC; Withstanding Voltage: 500VAC; ComponentLink1Description: Website Link; ComponentLink1URL: https://www.we-online.com/redexpert/article/66100411622?ad; ComponentLink2Description: Datasheet Link; ComponentLink2URL: https://www.we-online.com/redexpert/spec/66100411622?ad; Manufacturer Part Number: 66100411622; Category: Wire-to-Board Connectors; Match Code: WR-WTB; Mount: Through Hole; Operating Temperature Max: 125°C; Operating Temperature Min: -40°C; Packaging: Box; Length: 9.86mm; Width: 5mm; Height: 11.3mm; Gender: Male; Number of Pins: 4; Number of Rows: 1; Orientation: Vertical; Pitch: 2.54mm
footprint 66100411622
pins: 1, 2, 3, 4

## 66100411722
designator P?  (value not drawn)
WR-WTB THT Male Right Angled Shrouded Header, pitch 2.54mm, 4pins; Manufacturer: Wurth Elektronik; Contact Resistance: 20mΩ; Rated Current: 3A; Working Voltage: 50VAC; Withstanding Voltage: 500VAC; ComponentLink1Description: Website Link; ComponentLink1URL: https://www.we-online.com/redexpert/article/66100411722?ad; ComponentLink2Description: Datasheet Link; ComponentLink2URL: https://www.we-online.com/redexpert/spec/66100411722?ad; Manufacturer Part Number: 66100411722; Category: Wire-to-Board Connectors; Match Code: WR-WTB; Mount: Through Hole; Operating Temperature Max: 125°C; Operating Temperature Min: -40°C; Packaging: Box; Length: 9.86mm; Width: 11.3mm; Height: 5mm; Gender: Male; Number of Pins: 4; Number of Rows: 1; Orientation: Right Angled; Pitch: 2.54mm
footprint 66100411722
pins: 1, 2, 3, 4

## 66100421622
designator P?  (value not drawn)
WR-WTB THT Male Vertical Shrouded Header, pitch 2.54mm, 4pins; Manufacturer: Wurth Elektronik; Contact Resistance: 20mΩ; Rated Current: 3A; Working Voltage: 50VAC; Withstanding Voltage: 500VAC; Manufacturer Part Number: 66100421622; Category: Wire-to-Board Connectors; Match Code: WR-WTB; ComponentLink1Description: Website Link; ComponentLink1URL: https://www.we-online.com/redexpert/article/66100421622?ad; ComponentLink2Description: Datasheet Link; ComponentLink2URL: https://www.we-online.com/redexpert/spec/66100421622?ad; Mount: Through Hole; Operating Temperature Max: 125°C; Operating Temperature Min: -40°C; Packaging: Carton; Width: 7.6mm; Height: 11.2mm; Gender: Male; Number of Pins: 4; Number of Rows: 2; Orientation: Vertical; Pitch: 2.54mm
footprint 66100421622
pins: 1, 2, 3, 4

## 66100511622
designator P?  (value not drawn)
WR-WTB Male Vertical Shrouded Header, pitch 2.54mm, 5pins; Manufacturer: Wurth Elektronik; Contact Resistance: 20mΩ; Rated Current: 3A; Working Voltage: 50VAC; Withstanding Voltage: 500VAC; ComponentLink1Description: Website Link; ComponentLink1URL: https://www.we-online.com/redexpert/article/66100511622?ad; ComponentLink2Description: Datasheet Link; ComponentLink2URL: https://www.we-online.com/redexpert/spec/66100511622?ad; Manufacturer Part Number: 66100511622; Category: Wire-to-Board Connectors; Match Code: WR-WTB; Mount: Through Hole; Operating Temperature Max: 125°C; Operating Temperature Min: -40°C; Packaging: Box; Length: 12.4mm; Width: 5mm; Height: 11.3mm; Gender: Male; Number of Pins: 5; Number of Rows: 1; Orientation: Vertical; Pitch: 2.54mm
footprint 66100511622
pins: 1, 2, 3, 4, 5

## 66100511722
designator P?  (value not drawn)
WR-WTB THT Male Right Angled Shrouded Header, pitch 2.54mm, 5pins; Manufacturer: Wurth Elektronik; Contact Resistance: 20mΩ; Rated Current: 3A; Working Voltage: 50VAC; Withstanding Voltage: 500VAC; ComponentLink1Description: Website Link; ComponentLink1URL: https://www.we-online.com/redexpert/article/66100511722?ad; ComponentLink2Description: Datasheet Link; ComponentLink2URL: https://www.we-online.com/redexpert/spec/66100511722?ad; Manufacturer Part Number: 66100511722; Category: Wire-to-Board Connectors; Match Code: WR-WTB; Mount: Through Hole; Operating Temperature Max: 125°C; Operating Temperature Min: -40°C; Packaging: Box; Length: 12.4mm; Width: 11.3mm; Height: 5mm; Gender: Male; Number of Pins: 5; Number of Rows: 1; Orientation: Right Angled; Pitch: 2.54mm
footprint 66100511722
pins: 1, 2, 3, 4, 5

## 66100611622
designator P?  (value not drawn)
WR-WTB Male Vertical Shrouded Header, pitch 2.54mm, 6pins; Manufacturer: Wurth Elektronik; Contact Resistance: 20mΩ; Rated Current: 3A; Working Voltage: 50VAC; Withstanding Voltage: 500VAC; Manufacturer Part Number: 66100611622; Category: Wire-to-Board Connectors; Match Code: WR-WTB; ComponentLink1Description: Website Link; ComponentLink1URL: https://www.we-online.com/redexpert/article/66100611622?ad; ComponentLink2Description: Datasheet Link; ComponentLink2URL: https://www.we-online.com/redexpert/spec/66100611622?ad; Mount: Through Hole; Operating Temperature Max: 125°C; Operating Temperature Min: -40°C; Packaging: Box; Width: 5mm; Height: 11.3mm; Gender: Male; Number of Pins: 6; Number of Rows: 1; Orientation: Vertical; Pitch: 2.54mm
footprint 66100611622
pins: 1, 2, 3, 4, 5, 6

## 66100621622
designator P?  (value not drawn)
WR-WTB THT Male Vertical Shrouded Header, pitch 2.54mm, 6pins; Manufacturer: Wurth Elektronik; Contact Resistance: 20mΩ; Rated Current: 3A; Working Voltage: 50VAC; Withstanding Voltage: 500VAC; Manufacturer Part Number: 66100621622; Category: Wire-to-Board Connectors; Match Code: WR-WTB; ComponentLink1Description: Website Link; ComponentLink1URL: https://www.we-online.com/redexpert/article/66100621622?ad; ComponentLink2Description: Datasheet Link; ComponentLink2URL: https://www.we-online.com/redexpert/spec/66100621622?ad; Mount: Through Hole; Operating Temperature Max: 125°C; Operating Temperature Min: -40°C; Packaging: Carton; Width: 7.6mm; Height: 11.2mm; Gender: Male; Number of Pins: 6; Number of Rows: 2; Orientation: Vertical; Pitch: 2.54mm
footprint 66100621622
pins: 1, 2, 3, 4, 5, 6

## 66100711622
designator P?  (value not drawn)
WR-WTB Male Vertical Shrouded Header, pitch 2.54mm, 7pins; Manufacturer: Wurth Elektronik; Contact Resistance: 20mΩ; Rated Current: 3A; Working Voltage: 50VAC; Withstanding Voltage: 500VAC; Manufacturer Part Number: 66100711622; Category: Wire-to-Board Connectors; Match Code: WR-WTB; ComponentLink1Description: Website Link; ComponentLink1URL: https://www.we-online.com/redexpert/article/66100711622?ad; ComponentLink2Description: Datasheet Link; ComponentLink2URL: https://www.we-online.com/redexpert/spec/66100711622?ad; Mount: Through Hole; Operating Temperature Max: 125°C; Operating Temperature Min: -40°C; Packaging: Box; Width: 5mm; Height: 11.3mm; Gender: Male; Number of Pins: 7; Number of Rows: 1; Orientation: Vertical; Pitch: 2.54mm
footprint 66100711622
pins: 1, 2, 3, 4, 5, 6, 7

## 66100811622
designator P?  (value not drawn)
WR-WTB Male Vertical Shrouded Header, pitch 2.54mm, 8pins; Manufacturer: Wurth Elektronik; Contact Resistance: 20mΩ; Rated Current: 3A; Working Voltage: 50VAC; Withstanding Voltage: 500VAC; ComponentLink1Description: Website Link; ComponentLink1URL: https://www.we-online.com/redexpert/article/66100811622?ad; ComponentLink2Description: Datasheet Link; ComponentLink2URL: https://www.we-online.com/redexpert/spec/66100811622?ad; Manufacturer Part Number: 66100811622; Category: Wire-to-Board Connectors; Match Code: WR-WTB; Mount: Through Hole; Operating Temperature Max: 125°C; Operating Temperature Min: -40°C; Packaging: Box; Length: 20.02mm; Width: 5mm; Height: 11.3mm; Gender: Male; Number of Pins: 8; Number of Rows: 1; Orientation: Vertical; Pitch: 2.54mm
footprint 66100811622
pins: 1, 2, 3, 4, 5, 6, 7, 8

## 66100811722
designator P?  (value not drawn)
WR-WTB THT Male Right Angled Shrouded Header, pitch 2.54mm, 8pins; Manufacturer: Wurth Elektronik; Contact Resistance: 20mΩ; Rated Current: 3A; Working Voltage: 50VAC; Withstanding Voltage: 500VAC; ComponentLink1Description: Website Link; ComponentLink1URL: https://www.we-online.com/redexpert/article/66100811722?ad; ComponentLink2Description: Datasheet Link; ComponentLink2URL: https://www.we-online.com/redexpert/spec/66100811722?ad; Manufacturer Part Number: 66100811722; Category: Wire-to-Board Connectors; Match Code: WR-WTB; Mount: Through Hole; Operating Temperature Max: 125°C; Operating Temperature Min: -40°C; Packaging: Box; Length: 20.02mm; Width: 11.3mm; Height: 5mm; Gender: Male; Number of Pins: 8; Number of Rows: 1; Orientation: Right Angled; Pitch: 2.54mm
footprint 66100811722
pins: 1, 2, 3, 4, 5, 6, 7, 8

## 66100821622
designator P?  (value not drawn)
WR-WTB THT Male Vertical Shrouded Header, pitch 2.54mm, 8pins; Manufacturer: Wurth Elektronik; Contact Resistance: 20mΩ; Rated Current: 3A; Working Voltage: 50VAC; Withstanding Voltage: 500VAC; Manufacturer Part Number: 66100821622; Category: Wire-to-Board Connectors; Match Code: WR-WTB; ComponentLink1Description: Website Link; ComponentLink1URL: https://www.we-online.com/redexpert/article/66100821622?ad; ComponentLink2Description: Datasheet Link; ComponentLink2URL: https://www.we-online.com/redexpert/spec/66100821622?ad; Mount: Through Hole; Operating Temperature Max: 125°C; Operating Temperature Min: -40°C; Packaging: Carton; Width: 7.6mm; Height: 11.2mm; Gender: Male; Number of Pins: 8; Number of Rows: 2; Orientation: Vertical; Pitch: 2.54mm
footprint 66100821622
pins: 1, 2, 3, 4, 5, 6, 7, 8

## 66100911622
designator P?  (value not drawn)
WR-WTB Male Vertical Shrouded Header, pitch 2.54mm, 9pins; Manufacturer: Wurth Elektronik; Contact Resistance: 20mΩ; Rated Current: 3A; Working Voltage: 50VAC; Withstanding Voltage: 500VAC; Manufacturer Part Number: 66100911622; Category: Wire-to-Board Connectors; Match Code: WR-WTB; ComponentLink1Description: Website Link; ComponentLink1URL: https://www.we-online.com/redexpert/article/66100911622?ad; ComponentLink2Description: Datasheet Link; ComponentLink2URL: https://www.we-online.com/redexpert/spec/66100911622?ad; Mount: Through Hole; Operating Temperature Max: 125°C; Operating Temperature Min: -40°C; Packaging: Box; Width: 5mm; Height: 11.3mm; Gender: Male; Number of Pins: 9; Number of Rows: 1; Orientation: Vertical; Pitch: 2.54mm
footprint 66100911622
pins: 1, 2, 3, 4, 5, 6, 7, 8, 9

## 66101011622
designator P?  (value not drawn)
WR-WTB Male Vertical Shrouded Header, pitch 2.54mm, 10pins; Manufacturer: Wurth Elektronik; Contact Resistance: 20mΩ; Rated Current: 3A; Working Voltage: 50VAC; Withstanding Voltage: 500VAC; ComponentLink1Description: Website Link; ComponentLink1URL: https://www.we-online.com/redexpert/article/66101011622?ad; ComponentLink2Description: Datasheet Link; ComponentLink2URL: https://www.we-online.com/redexpert/spec/66101011622?ad; Manufacturer Part Number: 66101011622; Category: Wire-to-Board Connectors; Match Code: WR-WTB; Mount: Through Hole; Operating Temperature Max: 125°C; Operating Temperature Min: -40°C; Packaging: Box; Length: 25.1mm; Width: 5mm; Height: 11.3mm; Gender: Male; Number of Pins: 10; Number of Rows: 1; Orientation: Vertical; Pitch: 2.54mm
footprint 66101011622
pins: 1, 2, 3, 4, 5, 6, 7, 8, 9, 10

## 66101011722
designator P?  (value not drawn)
WR-WTB THT Male Right Angled Shrouded Header, pitch 2.54mm, 10pins; Manufacturer: Wurth Elektronik; Contact Resistance: 20mΩ; Rated Current: 3A; Working Voltage: 50VAC; Withstanding Voltage: 500VAC; ComponentLink1Description: Website Link; ComponentLink1URL: https://www.we-online.com/redexpert/article/66101011722?ad; ComponentLink2Description: Datasheet Link; ComponentLink2URL: https://www.we-online.com/redexpert/spec/66101011722?ad; Manufacturer Part Number: 66101011722; Category: Wire-to-Board Connectors; Match Code: WR-WTB; Mount: Through Hole; Operating Temperature Max: 125°C; Operating Temperature Min: -40°C; Packaging: Box; Length: 25.1mm; Width: 11.3mm; Height: 5mm; Gender: Male; Number of Pins: 10; Number of Rows: 1; Orientation: Right Angled; Pitch: 2.54mm
footprint 66101011722
pins: 1, 2, 3, 4, 5, 6, 7, 8, 9, 10

## 66101021622
designator P?  (value not drawn)
WR-WTB THT Male Vertical Shrouded Header, pitch 2.54mm, 10pins; Manufacturer: Wurth Elektronik; Contact Resistance: 20mΩ; Rated Current: 3A; Working Voltage: 50VAC; Withstanding Voltage: 500VAC; Manufacturer Part Number: 66101021622; Category: Wire-to-Board Connectors; Match Code: WR-WTB; ComponentLink1Description: Website Link; ComponentLink1URL: https://www.we-online.com/redexpert/article/66101021622?ad; ComponentLink2Description: Datasheet Link; ComponentLink2URL: https://www.we-online.com/redexpert/spec/66101021622?ad; Mount: Through Hole; Operating Temperature Max: 125°C; Operating Temperature Min: -40°C; Packaging: Carton; Width: 7.6mm; Height: 11.2mm; Gender: Male; Number of Pins: 10; Number of Rows: 2; Orientation: Vertical; Pitch: 2.54mm
footprint 66101021622
pins: 1, 2, 3, 4, 5, 6, 7, 8, 9, 10

## 66101211622
designator P?  (value not drawn)
WR-WTB Male Vertical Shrouded Header, pitch 2.54mm, 12pins; Manufacturer: Wurth Elektronik; Contact Resistance: 20mΩ; Rated Current: 3A; Working Voltage: 50VAC; Withstanding Voltage: 500VAC; Manufacturer Part Number: 66101211622; Category: Wire-to-Board Connectors; Match Code: WR-WTB; ComponentLink1Description: Website Link; ComponentLink1URL: https://www.we-online.com/redexpert/article/66101211622?ad; ComponentLink2Description: Datasheet Link; ComponentLink2URL: https://www.we-online.com/redexpert/spec/66101211622?ad; Mount: Through Hole; Operating Temperature Max: 125°C; Operating Temperature Min: -40°C; Packaging: Box; Width: 5mm; Height: 11.3mm; Gender: Male; Number of Pins: 12; Number of Rows: 1; Orientation: Vertical; Pitch: 2.54mm
footprint 66101211622
pins: 1, 2, 3, 4, 5, 6, 7, 8, 9, 10, 11, 12

## 66101221622
designator P?  (value not drawn)
WR-WTB THT Male Vertical Shrouded Header, pitch 2.54mm, 12pins; Manufacturer: Wurth Elektronik; Contact Resistance: 20mΩ; Rated Current: 3A; Working Voltage: 50VAC; Withstanding Voltage: 500VAC; Manufacturer Part Number: 66101221622; Category: Wire-to-Board Connectors; Match Code: WR-WTB; ComponentLink1Description: Website Link; ComponentLink1URL: https://www.we-online.com/redexpert/article/66101221622?ad; ComponentLink2Description: Datasheet Link; ComponentLink2URL: https://www.we-online.com/redexpert/spec/66101221622?ad; Mount: Through Hole; Operating Temperature Max: 125°C; Operating Temperature Min: -40°C; Packaging: Carton; Width: 7.6mm; Height: 11.2mm; Gender: Male; Number of Pins: 12; Number of Rows: 2; Orientation: Vertical; Pitch: 2.54mm
footprint 66101221622
pins: 1, 2, 3, 4, 5, 6, 7, 8, 9, 10, 11, 12

## 66101411622
designator P?  (value not drawn)
WR-WTB Male Vertical Shrouded Header, pitch 2.54mm, 14pins; Manufacturer: Wurth Elektronik; Contact Resistance: 20mΩ; Rated Current: 3A; Working Voltage: 50VAC; Withstanding Voltage: 500VAC; Manufacturer Part Number: 66101411622; Category: Wire-to-Board Connectors; Match Code: WR-WTB; ComponentLink1Description: Website Link; ComponentLink1URL: https://www.we-online.com/redexpert/article/66101411622?ad; ComponentLink2Description: Datasheet Link; ComponentLink2URL: https://www.we-online.com/redexpert/spec/66101411622?ad; Mount: Through Hole; Operating Temperature Max: 125°C; Operating Temperature Min: -40°C; Packaging: Box; Width: 5mm; Height: 11.3mm; Gender: Male; Number of Pins: 14; Number of Rows: 1; Orientation: Vertical; Pitch: 2.54mm
footprint 66101411622
pins: 1, 2, 3, 4, 5, 6, 7, 8, 9, 10, 11, 12, 13, 14